# EAGLE library part LTC3217 (library PowerProducts)
LT-Spice library generated with : ltspice.ulp from: D:/Program Files (x86)/LTC/LTspiceIV/lib/sym/PowerProducts/LTC3218*.asy at 07.10.2012 17:52:50
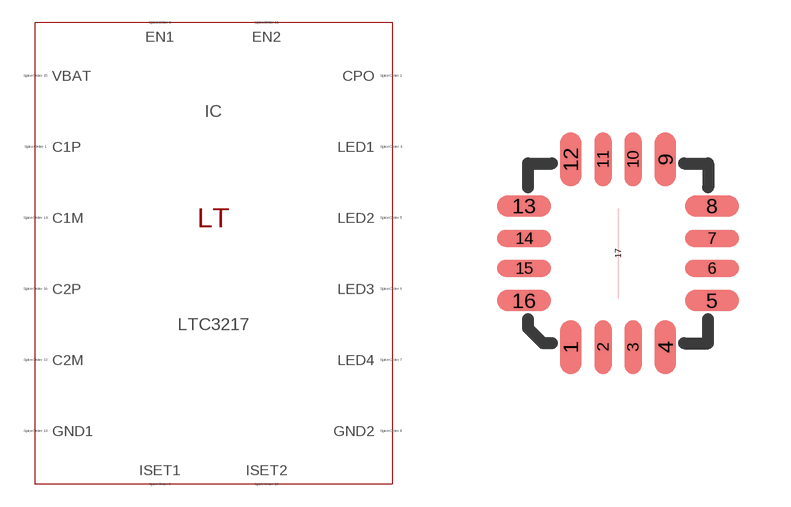
[diagram p142: symbol with the pads of QFN16(UD); footprint QFN16(UD)]

Designator prefix IC

## LTC3217 (SPICEMODEL: LTC3217.sub; SPICEPREFIX: X; VALUE2: LTC3217)  [QFN16(UD)]
1  C1P  pas
2  CPO  pas
3  EN1  pas
4  LED1  pas
5  LED2  pas
6  LED3  pas
7  LED4  pas
8  GND2  pas
9  ISET1  pas
10  ISET2  pas
11  EN2  pas
12  C2M  pas
13  GND1  pas
14  C1M  pas
15  VBAT  pas
16  C2P  pas
17  GND1  pas

## Footprint QFN16(UD) (pad centres in mm)
Package generated from: QFN16(UD).asc (!PADS-POWERPCB-V9.3-BASIC! DESIGN DATABASE ASCII FILE 1.0) with :import-pads-powerpcb-v5.ulp Version 1.0.1 at 04.10.2012 14:11:23
smd 0.54 x 1.35: 1 -1.185,-2.348; 4 1.185,-2.348; 9 1.185,2.348; 12 -1.185,2.348
smd 0.42 x 1.35: 2 -0.375,-2.348; 3 0.375,-2.348; 10 0.375,2.348; 11 -0.375,2.348
smd 1.35 x 0.54: 5 2.348,-1.185; 8 2.348,1.185; 13 -2.348,1.185; 16 -2.348,-1.185
smd 1.35 x 0.42: 6 2.348,-0.375; 7 2.348,0.375; 14 -2.348,0.375; 15 -2.348,-0.375
smd 0 x 2.25: 17 0,0